# Altium footprint library LiPo Battery 40mmX10mmX4mm.PcbLib: 1 footprints
Each footprint in its own frame and in the unit in brackets; x right, y up, seen from the top. Pads: shape width x height; smd on the part's side, far side on the other; paste and mask are expansions set on the pad; w line width, h text height; cw(c..) or ccw(c..) is an arc to the next point about the centre after c.
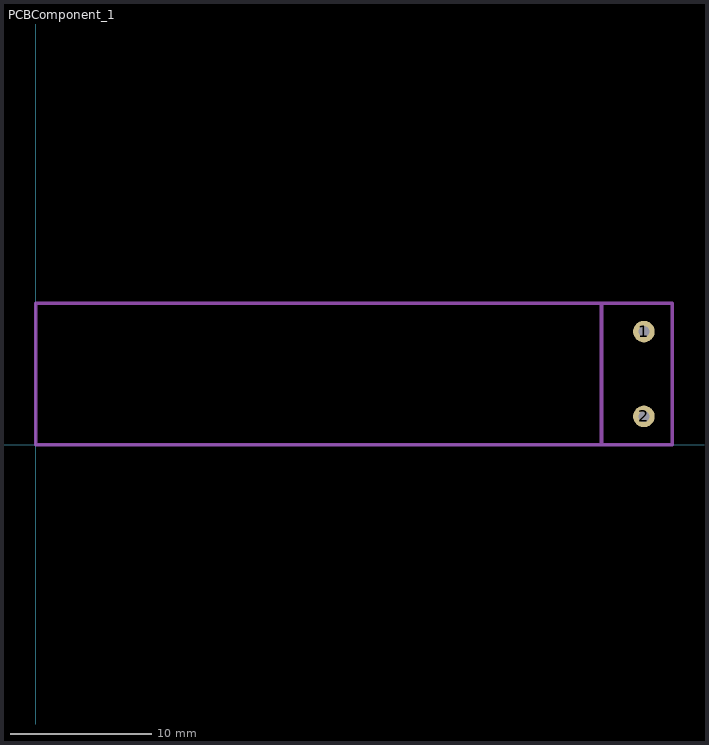
[diagram p0: the footprint, top view; thin cyan lines are the x and y axes]

## PCBComponent_1 [mil]
pads (2):
  round 60 hole 30: 1(1692.91,314.96) 2(1692.91,78.74)
Mechanical 1:
  lines w10: 1574.8,3.7 1574.8,393.7 ; 0,0 1771.65,0 1771.65,393.7 0,393.7 0,0